# EAGLE library part 2X7-W (library Pinhead)
Ph2x7-W
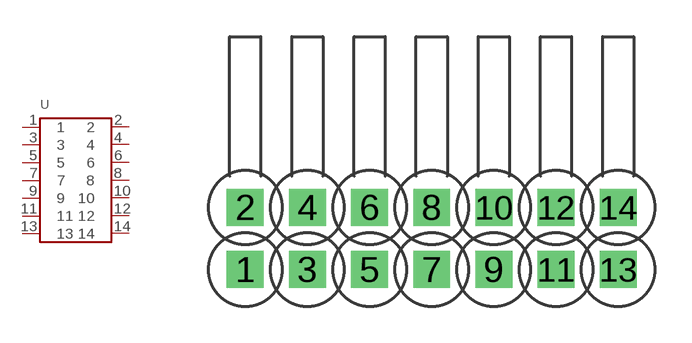
[diagram p11: symbol with the pads of 2X7-W; footprint 2X7-W]

Designator prefix -

## 2X7-W  [2X7-W]
1  1
2  2
3  3
4  4
5  5
6  6
7  7
8  8
9  9
10  10
11  11
12  12
13  13
14  14

## Footprint 2X7-W (pad centres in mm)
Ph2x7-W
drill 1 square: 1 -7.62,-1.27; 2 -7.62,1.27; 3 -5.08,-1.27; 4 -5.08,1.27; 5 -2.54,-1.27; 6 -2.54,1.27; 7 0,-1.27; 8 0,1.27; 9 2.54,-1.27; 10 2.54,1.27; 11 5.08,-1.27; 12 5.08,1.27; 13 7.62,-1.27; 14 7.62,1.27